# Altium integrated library Microchip SST Flash.IntLib: 282 symbols (part 11 of 37)
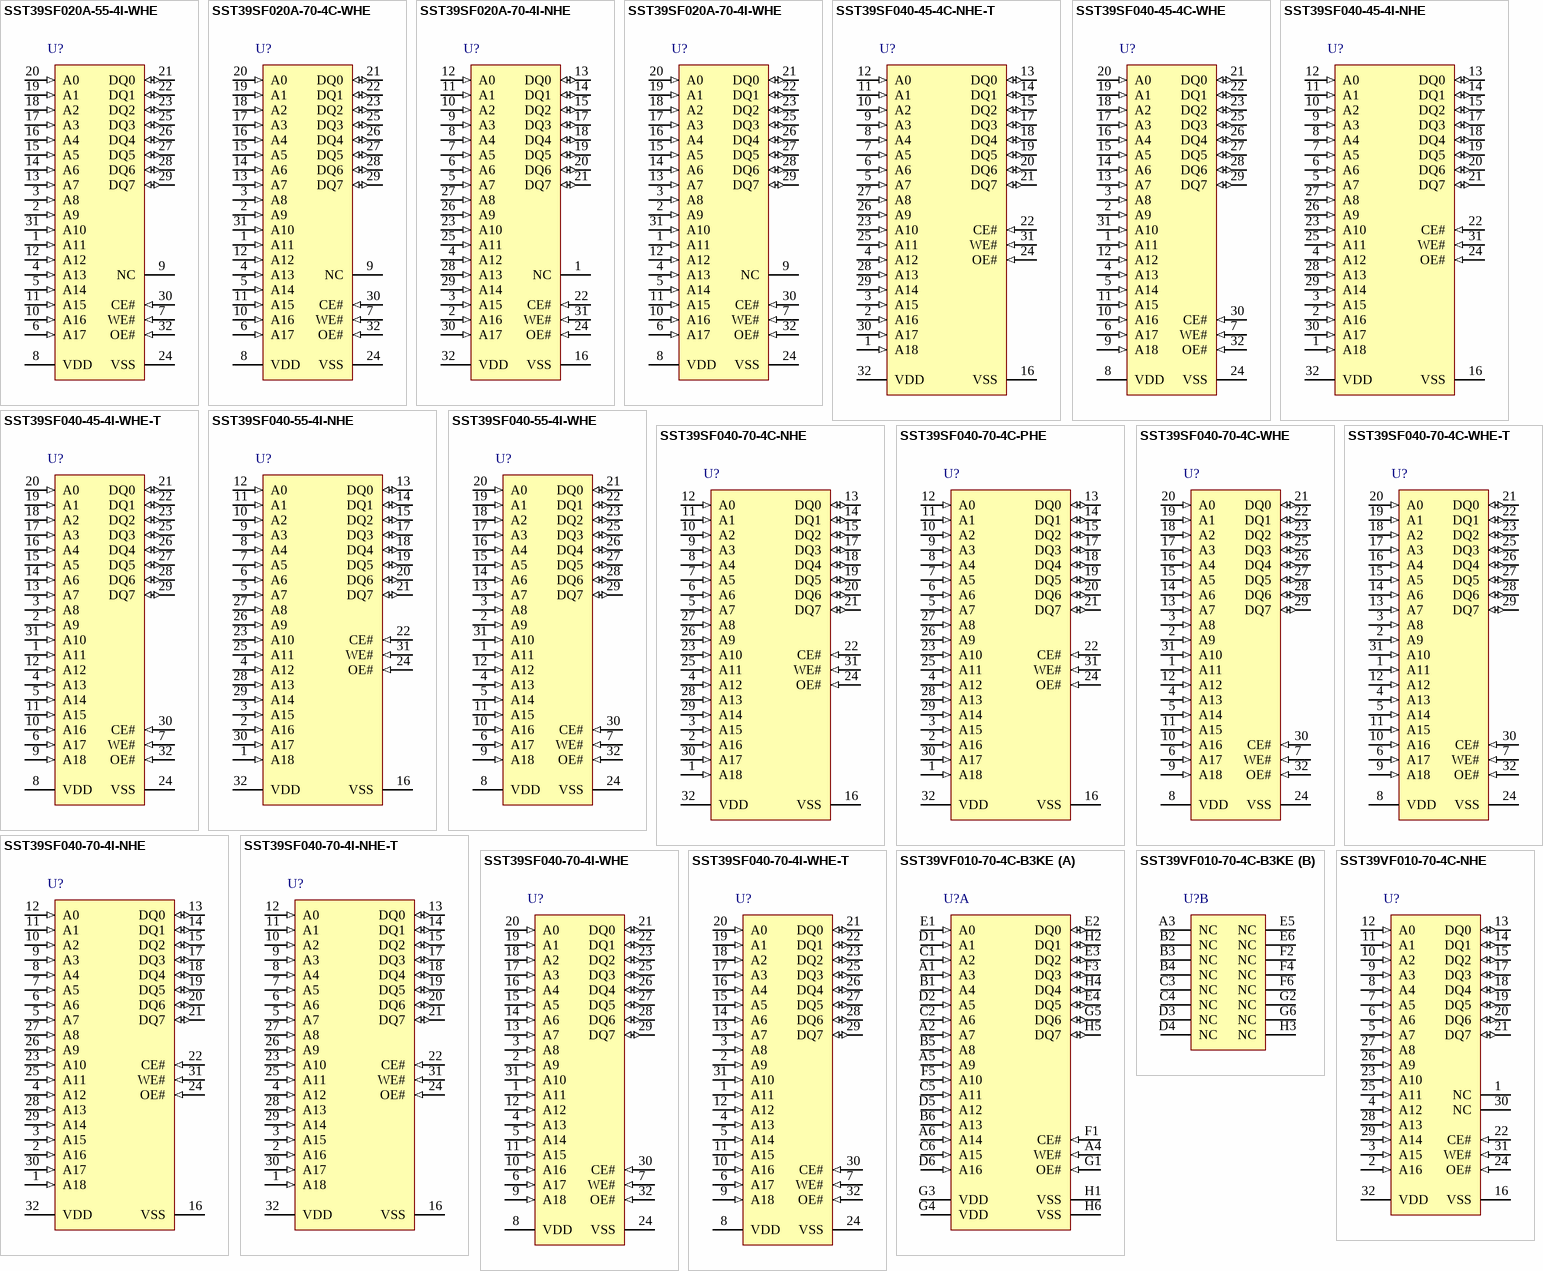
[diagram p24: symbols SST39SF020A-55-4I-WHE to SST39VF010-70-4C-NHE]

## SST39SF040-45-4C-WHE
designator U?
4 Mbit Multi-Purpose Flash, 4.5 to 5.5 V, 1 kHz, 0 to 70 degC, 32-pin TSOP (WH32), Tray; Manufacturer: Microchip; PartNumber: SST39SF040-45-4C-WHE; DatasheetVersion: Rev. A; PackageVersion: Rev. A; PackageReference: TSOP-WH32; PackageDescription: 32-Lead Thin Small Outline Package, 12.4 x 8 mm Body, 0.5 mm Pitch; Supplier 1: Digi-Key; Supplier Part Number 1: SST39SF040-45-4C-WHE-ND; Supplier 2: Mouser; Supplier Part Number 2: 804-39SF0405CWHE; Mounting Technology: Surface Mount; Code_JEDEC: MO-142; ComponentLink1Description: Manufacturer URL; ComponentLink1URL: http://www.microchip.com; ComponentLink2Description: Datasheet; ComponentLink2URL: http://ww1.microchip.com/downloads/en/DeviceDoc/25022A.pdf; ComponentLink3Description: Package Specification; ComponentLink3URL: http://ww1.microchip.com/downloads/en/DeviceDoc/25022A.pdf; ComponentLink4Description: Product URL; ComponentLink4URL: http://www.microchip.com/SST39SF040
footprint MCHP-TSOP-WH32_N (SOP, 32-Leads, Body 12.4x8mm, Pitch 0.5mm, IPC Medium Density)
footprint MCHP-TSOP-WH32_L (SOP, 32-Leads, Body 12.4x8mm, Pitch 0.5mm, IPC High Density)
footprint MCHP-TSOP-WH32_M (SOP, 32-Leads, Body 12.4x8mm, Pitch 0.5mm, IPC Low Density)
pins: 1 A11 (in) "To provide memory addresses. During Sector-Erase AMS-A12 address lines will select the sector.", 2 A9 (in) "To provide memory addresses. During Sector-Erase AMS-A12 address lines will select the sector.", 3 A8 (in) "To provide memory addresses. During Sector-Erase AMS-A12 address lines will select the sector.", 4 A13 (in) "To provide memory addresses. During Sector-Erase AMS-A12 address lines will select the sector.", 5 A14 (in) "To provide memory addresses. During Sector-Erase AMS-A12 address lines will select the sector.", 6 A17 (in) "To provide memory addresses. During Sector-Erase AMS-A12 address lines will select the sector.", 7 WE# (in) "To control the Write operations.", 8 VDD (power) "To provide positive power supply", 9 A18 (in) "To provide memory addresses. During Sector-Erase AMS-A12 address lines will select the sector.", 10 A16 (in) "To provide memory addresses. During Sector-Erase AMS-A12 address lines will select the sector.", 11 A15 (in) "To provide memory addresses. During Sector-Erase AMS-A12 address lines will select the sector.", 12 A12 (in) "To provide memory addresses. During Sector-Erase AMS-A12 address lines will select the sector.", 13 A7 (in) "To provide memory addresses. During Sector-Erase AMS-A12 address lines will select the sector.", 14 A6 (in) "To provide memory addresses. During Sector-Erase AMS-A12 address lines will select the sector.", 15 A5 (in) "To provide memory addresses. During Sector-Erase AMS-A12 address lines will select the sector.", 16 A4 (in) "To provide memory addresses. During Sector-Erase AMS-A12 address lines will select the sector.", 17 A3 (in) "To provide memory addresses. During Sector-Erase AMS-A12 address lines will select the sector.", 18 A2 (in) "To provide memory addresses. During Sector-Erase AMS-A12 address lines will select the sector.", 19 A1 (in) "To provide memory addresses. During Sector-Erase AMS-A12 address lines will select the sector.", 20 A0 (in) "To provide memory addresses. During Sector-Erase AMS-A12 address lines will select the sector.", 21 DQ0 (io) "To output data during Read cycles and receive input data during Write cycles. Data is internally latched during a Write cycle. The outputs are in tri-state when OE# or CE# is high.", 22 DQ1 (io) "To output data during Read cycles and receive input data during Write cycles. Data is internally latched during a Write cycle. The outputs are in tri-state when OE# or CE# is high.", 23 DQ2 (io) "To output data during Read cycles and receive input data during Write cycles. Data is internally latched during a Write cycle. The outputs are in tri-state when OE# or CE# is high.", 24 VSS (power) "Ground", 25 DQ3 (io) "To output data during Read cycles and receive input data during Write cycles. Data is internally latched during a Write cycle. The outputs are in tri-state when OE# or CE# is high.", 26 DQ4 (io) "To output data during Read cycles and receive input data during Write cycles. Data is internally latched during a Write cycle. The outputs are in tri-state when OE# or CE# is high.", 27 DQ5 (io) "To output data during Read cycles and receive input data during Write cycles. Data is internally latched during a Write cycle. The outputs are in tri-state when OE# or CE# is high.", 28 DQ6 (io) "To output data during Read cycles and receive input data during Write cycles. Data is internally latched during a Write cycle. The outputs are in tri-state when OE# or CE# is high.", 29 DQ7 (io) "To output data during Read cycles and receive input data during Write cycles. Data is internally latched during a Write cycle. The outputs are in tri-state when OE# or CE# is high.", 30 CE# (in) "To activate the device when CE# is low.", 31 A10 (in) "To provide memory addresses. During Sector-Erase AMS-A12 address lines will select the sector.", 32 OE# (in) "To gate the data output buffers."

## SST39SF040-45-4I-NHE
designator U?
4 Mbit Multi-Purpose Flash, 4.5 to 5.5 V, 1 kHz, -40 to 85 degC, 32-pin PLCC (NH32), Tube; Manufacturer: Microchip; PartNumber: SST39SF040-45-4I-NHE; DatasheetVersion: Rev. A; PackageVersion: Rev. A; PackageReference: PLCC-NH32; PackageDescription: 32-lead Plastic Lead Chip Carrier, 11.43 x 13.97 mm Body, 1.27 mm Pitch; Supplier 1: Digi-Key; Supplier Part Number 1: SST39SF040-45-4I-NHE-ND; Supplier 2: Mouser; Supplier Part Number 2: 804-39SF0405INHE; Mounting Technology: Surface Mount; Code_JEDEC: MS-016; ComponentLink1Description: Manufacturer URL; ComponentLink1URL: http://www.microchip.com; ComponentLink2Description: Datasheet; ComponentLink2URL: http://ww1.microchip.com/downloads/en/DeviceDoc/25022A.pdf; ComponentLink3Description: Package Specification; ComponentLink3URL: http://ww1.microchip.com/downloads/en/DeviceDoc/25022A.pdf; ComponentLink4Description: Product URL; ComponentLink4URL: http://www.microchip.com/SST39SF040
footprint MCHP-PLCC-NH32_N (PLCC, 32-Leads, Body 13.97x11.43mm, Pitch 1.27mm, IPC Medium Density)
footprint MCHP-PLCC-NH32_L (PLCC, 32-Leads, Body 13.97x11.43mm, Pitch 1.27mm, IPC High Density)
footprint MCHP-PLCC-NH32_M (PLCC, 32-Leads, Body 13.97x11.43mm, Pitch 1.27mm, IPC Low Density)
pins: 1 A18 (in) "To provide memory addresses. During Sector-Erase AMS-A12 address lines will select the sector.", 2 A16 (in) "To provide memory addresses. During Sector-Erase AMS-A12 address lines will select the sector.", 3 A15 (in) "To provide memory addresses. During Sector-Erase AMS-A12 address lines will select the sector.", 4 A12 (in) "To provide memory addresses. During Sector-Erase AMS-A12 address lines will select the sector.", 5 A7 (in) "To provide memory addresses. During Sector-Erase AMS-A12 address lines will select the sector.", 6 A6 (in) "To provide memory addresses. During Sector-Erase AMS-A12 address lines will select the sector.", 7 A5 (in) "To provide memory addresses. During Sector-Erase AMS-A12 address lines will select the sector.", 8 A4 (in) "To provide memory addresses. During Sector-Erase AMS-A12 address lines will select the sector.", 9 A3 (in) "To provide memory addresses. During Sector-Erase AMS-A12 address lines will select the sector.", 10 A2 (in) "To provide memory addresses. During Sector-Erase AMS-A12 address lines will select the sector.", 11 A1 (in) "To provide memory addresses. During Sector-Erase AMS-A12 address lines will select the sector.", 12 A0 (in) "To provide memory addresses. During Sector-Erase AMS-A12 address lines will select the sector.", 13 DQ0 (io) "To output data during Read cycles and receive input data during Write cycles. Data is internally latched during a Write cycle. The outputs are in tri-state when OE# or CE# is high.", 14 DQ1 (io) "To output data during Read cycles and receive input data during Write cycles. Data is internally latched during a Write cycle. The outputs are in tri-state when OE# or CE# is high.", 15 DQ2 (io) "To output data during Read cycles and receive input data during Write cycles. Data is internally latched during a Write cycle. The outputs are in tri-state when OE# or CE# is high.", 16 VSS (power) "Ground", 17 DQ3 (io) "To output data during Read cycles and receive input data during Write cycles. Data is internally latched during a Write cycle. The outputs are in tri-state when OE# or CE# is high.", 18 DQ4 (io) "To output data during Read cycles and receive input data during Write cycles. Data is internally latched during a Write cycle. The outputs are in tri-state when OE# or CE# is high.", 19 DQ5 (io) "To output data during Read cycles and receive input data during Write cycles. Data is internally latched during a Write cycle. The outputs are in tri-state when OE# or CE# is high.", 20 DQ6 (io) "To output data during Read cycles and receive input data during Write cycles. Data is internally latched during a Write cycle. The outputs are in tri-state when OE# or CE# is high.", 21 DQ7 (io) "To output data during Read cycles and receive input data during Write cycles. Data is internally latched during a Write cycle. The outputs are in tri-state when OE# or CE# is high.", 22 CE# (in) "To activate the device when CE# is low.", 23 A10 (in) "To provide memory addresses. During Sector-Erase AMS-A12 address lines will select the sector.", 24 OE# (in) "To gate the data output buffers.", 25 A11 (in) "To provide memory addresses. During Sector-Erase AMS-A12 address lines will select the sector.", 26 A9 (in) "To provide memory addresses. During Sector-Erase AMS-A12 address lines will select the sector.", 27 A8 (in) "To provide memory addresses. During Sector-Erase AMS-A12 address lines will select the sector.", 28 A13 (in) "To provide memory addresses. During Sector-Erase AMS-A12 address lines will select the sector.", 29 A14 (in) "To provide memory addresses. During Sector-Erase AMS-A12 address lines will select the sector.", 30 A17 (in) "To provide memory addresses. During Sector-Erase AMS-A12 address lines will select the sector.", 31 WE# (in) "To control the Write operations.", 32 VDD (power) "To provide 5.0V supply (4.5-5.5V)"

## SST39SF040-45-4I-WHE-T
designator U?
4 Mbit Multi-Purpose Flash, 4.5 to 5.5 V, 1 kHz, -40 to 85 degC, 32-pin TSOP (WH32), Tape and Reel; Manufacturer: Microchip; PartNumber: SST39SF040-45-4I-WHE-T; DatasheetVersion: Rev. A; PackageVersion: Rev. A; PackageReference: TSOP-WH32; PackageDescription: 32-Lead Thin Small Outline Package, 12.4 x 8 mm Body, 0.5 mm Pitch; Supplier 1: Digi-Key; Supplier Part Number 1: SST39SF040-45-4I-WHE-T-ND; Supplier 2: Mouser; Supplier Part Number 2: 579-39SF0404IWHET; Mounting Technology: Surface Mount; Code_JEDEC: MO-142; ComponentLink1Description: Manufacturer URL; ComponentLink1URL: http://www.microchip.com; ComponentLink2Description: Datasheet; ComponentLink2URL: http://ww1.microchip.com/downloads/en/DeviceDoc/25022A.pdf; ComponentLink3Description: Package Specification; ComponentLink3URL: http://ww1.microchip.com/downloads/en/DeviceDoc/25022A.pdf; ComponentLink4Description: Product URL; ComponentLink4URL: http://www.microchip.com/SST39SF040
footprint MCHP-TSOP-WH32_N (SOP, 32-Leads, Body 12.4x8mm, Pitch 0.5mm, IPC Medium Density)
footprint MCHP-TSOP-WH32_L (SOP, 32-Leads, Body 12.4x8mm, Pitch 0.5mm, IPC High Density)
footprint MCHP-TSOP-WH32_M (SOP, 32-Leads, Body 12.4x8mm, Pitch 0.5mm, IPC Low Density)
pins: 1 A11 (in) "To provide memory addresses. During Sector-Erase AMS-A12 address lines will select the sector.", 2 A9 (in) "To provide memory addresses. During Sector-Erase AMS-A12 address lines will select the sector.", 3 A8 (in) "To provide memory addresses. During Sector-Erase AMS-A12 address lines will select the sector.", 4 A13 (in) "To provide memory addresses. During Sector-Erase AMS-A12 address lines will select the sector.", 5 A14 (in) "To provide memory addresses. During Sector-Erase AMS-A12 address lines will select the sector.", 6 A17 (in) "To provide memory addresses. During Sector-Erase AMS-A12 address lines will select the sector.", 7 WE# (in) "To control the Write operations.", 8 VDD (power) "To provide positive power supply", 9 A18 (in) "To provide memory addresses. During Sector-Erase AMS-A12 address lines will select the sector.", 10 A16 (in) "To provide memory addresses. During Sector-Erase AMS-A12 address lines will select the sector.", 11 A15 (in) "To provide memory addresses. During Sector-Erase AMS-A12 address lines will select the sector.", 12 A12 (in) "To provide memory addresses. During Sector-Erase AMS-A12 address lines will select the sector.", 13 A7 (in) "To provide memory addresses. During Sector-Erase AMS-A12 address lines will select the sector.", 14 A6 (in) "To provide memory addresses. During Sector-Erase AMS-A12 address lines will select the sector.", 15 A5 (in) "To provide memory addresses. During Sector-Erase AMS-A12 address lines will select the sector.", 16 A4 (in) "To provide memory addresses. During Sector-Erase AMS-A12 address lines will select the sector.", 17 A3 (in) "To provide memory addresses. During Sector-Erase AMS-A12 address lines will select the sector.", 18 A2 (in) "To provide memory addresses. During Sector-Erase AMS-A12 address lines will select the sector.", 19 A1 (in) "To provide memory addresses. During Sector-Erase AMS-A12 address lines will select the sector.", 20 A0 (in) "To provide memory addresses. During Sector-Erase AMS-A12 address lines will select the sector.", 21 DQ0 (io) "To output data during Read cycles and receive input data during Write cycles. Data is internally latched during a Write cycle. The outputs are in tri-state when OE# or CE# is high.", 22 DQ1 (io) "To output data during Read cycles and receive input data during Write cycles. Data is internally latched during a Write cycle. The outputs are in tri-state when OE# or CE# is high.", 23 DQ2 (io) "To output data during Read cycles and receive input data during Write cycles. Data is internally latched during a Write cycle. The outputs are in tri-state when OE# or CE# is high.", 24 VSS (power) "Ground", 25 DQ3 (io) "To output data during Read cycles and receive input data during Write cycles. Data is internally latched during a Write cycle. The outputs are in tri-state when OE# or CE# is high.", 26 DQ4 (io) "To output data during Read cycles and receive input data during Write cycles. Data is internally latched during a Write cycle. The outputs are in tri-state when OE# or CE# is high.", 27 DQ5 (io) "To output data during Read cycles and receive input data during Write cycles. Data is internally latched during a Write cycle. The outputs are in tri-state when OE# or CE# is high.", 28 DQ6 (io) "To output data during Read cycles and receive input data during Write cycles. Data is internally latched during a Write cycle. The outputs are in tri-state when OE# or CE# is high.", 29 DQ7 (io) "To output data during Read cycles and receive input data during Write cycles. Data is internally latched during a Write cycle. The outputs are in tri-state when OE# or CE# is high.", 30 CE# (in) "To activate the device when CE# is low.", 31 A10 (in) "To provide memory addresses. During Sector-Erase AMS-A12 address lines will select the sector.", 32 OE# (in) "To gate the data output buffers."

## SST39SF040-55-4I-NHE
designator U?
4 Mbit Multi-Purpose Flash, 4.5 to 5.5 V, 1 kHz, -40 to 85 degC, 32-pin PLCC (NH32), Tube; Manufacturer: Microchip; PartNumber: SST39SF040-55-4I-NHE; DatasheetVersion: Rev. A; PackageVersion: Rev. A; PackageReference: PLCC-NH32; PackageDescription: 32-lead Plastic Lead Chip Carrier, 11.43 x 13.97 mm Body, 1.27 mm Pitch; Supplier 1: Digi-Key; Supplier Part Number 1: SST39SF040-55-4I-NHE-ND; Supplier 2: Newark; Supplier Part Number 2: 92R4725; Supplier 3: Mouser; Supplier Part Number 3: 579-39SF0405INHE; Mounting Technology: Surface Mount; Code_JEDEC: MS-016; ComponentLink1Description: Manufacturer URL; ComponentLink1URL: http://www.microchip.com; ComponentLink2Description: Datasheet; ComponentLink2URL: http://ww1.microchip.com/downloads/en/DeviceDoc/25022A.pdf; ComponentLink3Description: Package Specification; ComponentLink3URL: http://ww1.microchip.com/downloads/en/DeviceDoc/25022A.pdf; ComponentLink4Description: Product URL; ComponentLink4URL: http://www.microchip.com/SST39SF040
footprint MCHP-PLCC-NH32_N (PLCC, 32-Leads, Body 13.97x11.43mm, Pitch 1.27mm, IPC Medium Density)
footprint MCHP-PLCC-NH32_L (PLCC, 32-Leads, Body 13.97x11.43mm, Pitch 1.27mm, IPC High Density)
footprint MCHP-PLCC-NH32_M (PLCC, 32-Leads, Body 13.97x11.43mm, Pitch 1.27mm, IPC Low Density)
pins: 1 A18 (in) "To provide memory addresses. During Sector-Erase AMS-A12 address lines will select the sector.", 2 A16 (in) "To provide memory addresses. During Sector-Erase AMS-A12 address lines will select the sector.", 3 A15 (in) "To provide memory addresses. During Sector-Erase AMS-A12 address lines will select the sector.", 4 A12 (in) "To provide memory addresses. During Sector-Erase AMS-A12 address lines will select the sector.", 5 A7 (in) "To provide memory addresses. During Sector-Erase AMS-A12 address lines will select the sector.", 6 A6 (in) "To provide memory addresses. During Sector-Erase AMS-A12 address lines will select the sector.", 7 A5 (in) "To provide memory addresses. During Sector-Erase AMS-A12 address lines will select the sector.", 8 A4 (in) "To provide memory addresses. During Sector-Erase AMS-A12 address lines will select the sector.", 9 A3 (in) "To provide memory addresses. During Sector-Erase AMS-A12 address lines will select the sector.", 10 A2 (in) "To provide memory addresses. During Sector-Erase AMS-A12 address lines will select the sector.", 11 A1 (in) "To provide memory addresses. During Sector-Erase AMS-A12 address lines will select the sector.", 12 A0 (in) "To provide memory addresses. During Sector-Erase AMS-A12 address lines will select the sector.", 13 DQ0 (io) "To output data during Read cycles and receive input data during Write cycles. Data is internally latched during a Write cycle. The outputs are in tri-state when OE# or CE# is high.", 14 DQ1 (io) "To output data during Read cycles and receive input data during Write cycles. Data is internally latched during a Write cycle. The outputs are in tri-state when OE# or CE# is high.", 15 DQ2 (io) "To output data during Read cycles and receive input data during Write cycles. Data is internally latched during a Write cycle. The outputs are in tri-state when OE# or CE# is high.", 16 VSS (power) "Ground", 17 DQ3 (io) "To output data during Read cycles and receive input data during Write cycles. Data is internally latched during a Write cycle. The outputs are in tri-state when OE# or CE# is high.", 18 DQ4 (io) "To output data during Read cycles and receive input data during Write cycles. Data is internally latched during a Write cycle. The outputs are in tri-state when OE# or CE# is high.", 19 DQ5 (io) "To output data during Read cycles and receive input data during Write cycles. Data is internally latched during a Write cycle. The outputs are in tri-state when OE# or CE# is high.", 20 DQ6 (io) "To output data during Read cycles and receive input data during Write cycles. Data is internally latched during a Write cycle. The outputs are in tri-state when OE# or CE# is high.", 21 DQ7 (io) "To output data during Read cycles and receive input data during Write cycles. Data is internally latched during a Write cycle. The outputs are in tri-state when OE# or CE# is high.", 22 CE# (in) "To activate the device when CE# is low.", 23 A10 (in) "To provide memory addresses. During Sector-Erase AMS-A12 address lines will select the sector.", 24 OE# (in) "To gate the data output buffers.", 25 A11 (in) "To provide memory addresses. During Sector-Erase AMS-A12 address lines will select the sector.", 26 A9 (in) "To provide memory addresses. During Sector-Erase AMS-A12 address lines will select the sector.", 27 A8 (in) "To provide memory addresses. During Sector-Erase AMS-A12 address lines will select the sector.", 28 A13 (in) "To provide memory addresses. During Sector-Erase AMS-A12 address lines will select the sector.", 29 A14 (in) "To provide memory addresses. During Sector-Erase AMS-A12 address lines will select the sector.", 30 A17 (in) "To provide memory addresses. During Sector-Erase AMS-A12 address lines will select the sector.", 31 WE# (in) "To control the Write operations.", 32 VDD (power) "To provide 5.0V supply (4.5-5.5V)"

## SST39SF040-55-4I-WHE
designator U?
4 Mbit Multi-Purpose Flash, 4.5 to 5.5 V, 1 kHz, -40 to 85 degC, 32-pin TSOP (WH32), Tray; Manufacturer: Microchip; PartNumber: SST39SF040-55-4I-WHE; DatasheetVersion: Rev. A; PackageVersion: Rev. A; PackageReference: TSOP-WH32; PackageDescription: 32-Lead Thin Small Outline Package, 12.4 x 8 mm Body, 0.5 mm Pitch; Supplier 1: Digi-Key; Supplier Part Number 1: SST39SF040-55-4I-WHE-ND; Supplier 2: Newark; Supplier Part Number 2: 92R4726; Supplier 3: Mouser; Supplier Part Number 3: 579-39SF0405IWHE; Mounting Technology: Surface Mount; Code_JEDEC: MO-142; ComponentLink1Description: Manufacturer URL; ComponentLink1URL: http://www.microchip.com; ComponentLink2Description: Datasheet; ComponentLink2URL: http://ww1.microchip.com/downloads/en/DeviceDoc/25022A.pdf; ComponentLink3Description: Package Specification; ComponentLink3URL: http://ww1.microchip.com/downloads/en/DeviceDoc/25022A.pdf; ComponentLink4Description: Product URL; ComponentLink4URL: http://www.microchip.com/SST39SF040
footprint MCHP-TSOP-WH32_N (SOP, 32-Leads, Body 12.4x8mm, Pitch 0.5mm, IPC Medium Density)
footprint MCHP-TSOP-WH32_L (SOP, 32-Leads, Body 12.4x8mm, Pitch 0.5mm, IPC High Density)
footprint MCHP-TSOP-WH32_M (SOP, 32-Leads, Body 12.4x8mm, Pitch 0.5mm, IPC Low Density)
pins: 1 A11 (in) "To provide memory addresses. During Sector-Erase AMS-A12 address lines will select the sector.", 2 A9 (in) "To provide memory addresses. During Sector-Erase AMS-A12 address lines will select the sector.", 3 A8 (in) "To provide memory addresses. During Sector-Erase AMS-A12 address lines will select the sector.", 4 A13 (in) "To provide memory addresses. During Sector-Erase AMS-A12 address lines will select the sector.", 5 A14 (in) "To provide memory addresses. During Sector-Erase AMS-A12 address lines will select the sector.", 6 A17 (in) "To provide memory addresses. During Sector-Erase AMS-A12 address lines will select the sector.", 7 WE# (in) "To control the Write operations.", 8 VDD (power) "To provide positive power supply", 9 A18 (in) "To provide memory addresses. During Sector-Erase AMS-A12 address lines will select the sector.", 10 A16 (in) "To provide memory addresses. During Sector-Erase AMS-A12 address lines will select the sector.", 11 A15 (in) "To provide memory addresses. During Sector-Erase AMS-A12 address lines will select the sector.", 12 A12 (in) "To provide memory addresses. During Sector-Erase AMS-A12 address lines will select the sector.", 13 A7 (in) "To provide memory addresses. During Sector-Erase AMS-A12 address lines will select the sector.", 14 A6 (in) "To provide memory addresses. During Sector-Erase AMS-A12 address lines will select the sector.", 15 A5 (in) "To provide memory addresses. During Sector-Erase AMS-A12 address lines will select the sector.", 16 A4 (in) "To provide memory addresses. During Sector-Erase AMS-A12 address lines will select the sector.", 17 A3 (in) "To provide memory addresses. During Sector-Erase AMS-A12 address lines will select the sector.", 18 A2 (in) "To provide memory addresses. During Sector-Erase AMS-A12 address lines will select the sector.", 19 A1 (in) "To provide memory addresses. During Sector-Erase AMS-A12 address lines will select the sector.", 20 A0 (in) "To provide memory addresses. During Sector-Erase AMS-A12 address lines will select the sector.", 21 DQ0 (io) "To output data during Read cycles and receive input data during Write cycles. Data is internally latched during a Write cycle. The outputs are in tri-state when OE# or CE# is high.", 22 DQ1 (io) "To output data during Read cycles and receive input data during Write cycles. Data is internally latched during a Write cycle. The outputs are in tri-state when OE# or CE# is high.", 23 DQ2 (io) "To output data during Read cycles and receive input data during Write cycles. Data is internally latched during a Write cycle. The outputs are in tri-state when OE# or CE# is high.", 24 VSS (power) "Ground", 25 DQ3 (io) "To output data during Read cycles and receive input data during Write cycles. Data is internally latched during a Write cycle. The outputs are in tri-state when OE# or CE# is high.", 26 DQ4 (io) "To output data during Read cycles and receive input data during Write cycles. Data is internally latched during a Write cycle. The outputs are in tri-state when OE# or CE# is high.", 27 DQ5 (io) "To output data during Read cycles and receive input data during Write cycles. Data is internally latched during a Write cycle. The outputs are in tri-state when OE# or CE# is high.", 28 DQ6 (io) "To output data during Read cycles and receive input data during Write cycles. Data is internally latched during a Write cycle. The outputs are in tri-state when OE# or CE# is high.", 29 DQ7 (io) "To output data during Read cycles and receive input data during Write cycles. Data is internally latched during a Write cycle. The outputs are in tri-state when OE# or CE# is high.", 30 CE# (in) "To activate the device when CE# is low.", 31 A10 (in) "To provide memory addresses. During Sector-Erase AMS-A12 address lines will select the sector.", 32 OE# (in) "To gate the data output buffers."

## SST39SF040-70-4C-NHE
designator U?
4 Mbit Multi-Purpose Flash, 4.5 to 5.5 V, 1 kHz, 0 to 70 degC, 32-pin PLCC (NH32), Tube; Manufacturer: Microchip; PartNumber: SST39SF040-70-4C-NHE; DatasheetVersion: Rev. A; PackageVersion: Rev. A; PackageReference: PLCC-NH32; PackageDescription: 32-lead Plastic Lead Chip Carrier, 11.43 x 13.97 mm Body, 1.27 mm Pitch; Supplier 1: Digi-Key; Supplier Part Number 1: SST39SF040-70-4C-NHE-ND; Supplier 2: Farnell; Supplier Part Number 2: 1871946; Supplier 3: Newark; Supplier Part Number 3: 92R4727; Supplier 4: Mouser; Supplier Part Number 4: 804-39SF0407CNHE; Mounting Technology: Surface Mount; Code_JEDEC: MS-016; ComponentLink1Description: Manufacturer URL; ComponentLink1URL: http://www.microchip.com; ComponentLink2Description: Datasheet; ComponentLink2URL: http://ww1.microchip.com/downloads/en/DeviceDoc/25022A.pdf; ComponentLink3Description: Package Specification; ComponentLink3URL: http://ww1.microchip.com/downloads/en/DeviceDoc/25022A.pdf; ComponentLink4Description: Product URL; ComponentLink4URL: http://www.microchip.com/SST39SF040
footprint MCHP-PLCC-NH32_N (PLCC, 32-Leads, Body 13.97x11.43mm, Pitch 1.27mm, IPC Medium Density)
footprint MCHP-PLCC-NH32_L (PLCC, 32-Leads, Body 13.97x11.43mm, Pitch 1.27mm, IPC High Density)
footprint MCHP-PLCC-NH32_M (PLCC, 32-Leads, Body 13.97x11.43mm, Pitch 1.27mm, IPC Low Density)
pins: 1 A18 (in) "To provide memory addresses. During Sector-Erase AMS-A12 address lines will select the sector.", 2 A16 (in) "To provide memory addresses. During Sector-Erase AMS-A12 address lines will select the sector.", 3 A15 (in) "To provide memory addresses. During Sector-Erase AMS-A12 address lines will select the sector.", 4 A12 (in) "To provide memory addresses. During Sector-Erase AMS-A12 address lines will select the sector.", 5 A7 (in) "To provide memory addresses. During Sector-Erase AMS-A12 address lines will select the sector.", 6 A6 (in) "To provide memory addresses. During Sector-Erase AMS-A12 address lines will select the sector.", 7 A5 (in) "To provide memory addresses. During Sector-Erase AMS-A12 address lines will select the sector.", 8 A4 (in) "To provide memory addresses. During Sector-Erase AMS-A12 address lines will select the sector.", 9 A3 (in) "To provide memory addresses. During Sector-Erase AMS-A12 address lines will select the sector.", 10 A2 (in) "To provide memory addresses. During Sector-Erase AMS-A12 address lines will select the sector.", 11 A1 (in) "To provide memory addresses. During Sector-Erase AMS-A12 address lines will select the sector.", 12 A0 (in) "To provide memory addresses. During Sector-Erase AMS-A12 address lines will select the sector.", 13 DQ0 (io) "To output data during Read cycles and receive input data during Write cycles. Data is internally latched during a Write cycle. The outputs are in tri-state when OE# or CE# is high.", 14 DQ1 (io) "To output data during Read cycles and receive input data during Write cycles. Data is internally latched during a Write cycle. The outputs are in tri-state when OE# or CE# is high.", 15 DQ2 (io) "To output data during Read cycles and receive input data during Write cycles. Data is internally latched during a Write cycle. The outputs are in tri-state when OE# or CE# is high.", 16 VSS (power) "Ground", 17 DQ3 (io) "To output data during Read cycles and receive input data during Write cycles. Data is internally latched during a Write cycle. The outputs are in tri-state when OE# or CE# is high.", 18 DQ4 (io) "To output data during Read cycles and receive input data during Write cycles. Data is internally latched during a Write cycle. The outputs are in tri-state when OE# or CE# is high.", 19 DQ5 (io) "To output data during Read cycles and receive input data during Write cycles. Data is internally latched during a Write cycle. The outputs are in tri-state when OE# or CE# is high.", 20 DQ6 (io) "To output data during Read cycles and receive input data during Write cycles. Data is internally latched during a Write cycle. The outputs are in tri-state when OE# or CE# is high.", 21 DQ7 (io) "To output data during Read cycles and receive input data during Write cycles. Data is internally latched during a Write cycle. The outputs are in tri-state when OE# or CE# is high.", 22 CE# (in) "To activate the device when CE# is low.", 23 A10 (in) "To provide memory addresses. During Sector-Erase AMS-A12 address lines will select the sector.", 24 OE# (in) "To gate the data output buffers.", 25 A11 (in) "To provide memory addresses. During Sector-Erase AMS-A12 address lines will select the sector.", 26 A9 (in) "To provide memory addresses. During Sector-Erase AMS-A12 address lines will select the sector.", 27 A8 (in) "To provide memory addresses. During Sector-Erase AMS-A12 address lines will select the sector.", 28 A13 (in) "To provide memory addresses. During Sector-Erase AMS-A12 address lines will select the sector.", 29 A14 (in) "To provide memory addresses. During Sector-Erase AMS-A12 address lines will select the sector.", 30 A17 (in) "To provide memory addresses. During Sector-Erase AMS-A12 address lines will select the sector.", 31 WE# (in) "To control the Write operations.", 32 VDD (power) "To provide 5.0V supply (4.5-5.5V)"

## SST39SF040-70-4C-PHE
designator U?
4 Mbit Multi-Purpose Flash, 4.5 to 5.5 V, 1 kHz, 0 to 70 degC, 32-pin PDIP (PH32), Tube; Manufacturer: Microchip; PartNumber: SST39SF040-70-4C-PHE; DatasheetVersion: Rev. A; PackageVersion: Rev. A; PackageReference: PDIP-PH32; PackageDescription: 32-Pin Plastic Dual In-line Pins, Row Spacing 15.24 mm, 41.91 x 13.72 mm Body, 2.54 mm Pitch; Supplier 1: Digi-Key; Supplier Part Number 1: SST39SF040-70-4C-PHE-ND; Supplier 2: Newark; Supplier Part Number 2: 92R4729; Supplier 3: Mouser; Supplier Part Number 3: 804-39SF0407CPHE; Mounting Technology: Through Hole; Code_JEDEC: MO-015; ComponentLink1Description: Manufacturer URL; ComponentLink1URL: http://www.microchip.com; ComponentLink2Description: Datasheet; ComponentLink2URL: http://ww1.microchip.com/downloads/en/DeviceDoc/25022A.pdf; ComponentLink3Description: Package Specification; ComponentLink3URL: http://ww1.microchip.com/downloads/en/DeviceDoc/25022A.pdf; ComponentLink4Description: Product URL; ComponentLink4URL: http://www.microchip.com/SST39SF040
footprint MCHP-PDIP-PH32 (DIP, 32-Leads, Body 41.91x13.72mm, Pitch 2.54mm)
pins: 1 A18 (in) "To provide memory addresses. During Sector-Erase AMS-A12 address lines will select the sector.", 2 A16 (in) "To provide memory addresses. During Sector-Erase AMS-A12 address lines will select the sector.", 3 A15 (in) "To provide memory addresses. During Sector-Erase AMS-A12 address lines will select the sector.", 4 A12 (in) "To provide memory addresses. During Sector-Erase AMS-A12 address lines will select the sector.", 5 A7 (in) "To provide memory addresses. During Sector-Erase AMS-A12 address lines will select the sector.", 6 A6 (in) "To provide memory addresses. During Sector-Erase AMS-A12 address lines will select the sector.", 7 A5 (in) "To provide memory addresses. During Sector-Erase AMS-A12 address lines will select the sector.", 8 A4 (in) "To provide memory addresses. During Sector-Erase AMS-A12 address lines will select the sector.", 9 A3 (in) "To provide memory addresses. During Sector-Erase AMS-A12 address lines will select the sector.", 10 A2 (in) "To provide memory addresses. During Sector-Erase AMS-A12 address lines will select the sector.", 11 A1 (in) "To provide memory addresses. During Sector-Erase AMS-A12 address lines will select the sector.", 12 A0 (in) "To provide memory addresses. During Sector-Erase AMS-A12 address lines will select the sector.", 13 DQ0 (io) "To output data during Read cycles and receive input data during Write cycles. Data is internally latched during a Write cycle. The outputs are in tri-state when OE# or CE# is high.", 14 DQ1 (io) "To output data during Read cycles and receive input data during Write cycles. Data is internally latched during a Write cycle. The outputs are in tri-state when OE# or CE# is high.", 15 DQ2 (io) "To output data during Read cycles and receive input data during Write cycles. Data is internally latched during a Write cycle. The outputs are in tri-state when OE# or CE# is high.", 16 VSS (power) "Ground", 17 DQ3 (io) "To output data during Read cycles and receive input data during Write cycles. Data is internally latched during a Write cycle. The outputs are in tri-state when OE# or CE# is high.", 18 DQ4 (io) "To output data during Read cycles and receive input data during Write cycles. Data is internally latched during a Write cycle. The outputs are in tri-state when OE# or CE# is high.", 19 DQ5 (io) "To output data during Read cycles and receive input data during Write cycles. Data is internally latched during a Write cycle. The outputs are in tri-state when OE# or CE# is high.", 20 DQ6 (io) "To output data during Read cycles and receive input data during Write cycles. Data is internally latched during a Write cycle. The outputs are in tri-state when OE# or CE# is high.", 21 DQ7 (io) "To output data during Read cycles and receive input data during Write cycles. Data is internally latched during a Write cycle. The outputs are in tri-state when OE# or CE# is high.", 22 CE# (in) "To activate the device when CE# is low.", 23 A10 (in) "To provide memory addresses. During Sector-Erase AMS-A12 address lines will select the sector.", 24 OE# (in) "To gate the data output buffers.", 25 A11 (in) "To provide memory addresses. During Sector-Erase AMS-A12 address lines will select the sector.", 26 A9 (in) "To provide memory addresses. During Sector-Erase AMS-A12 address lines will select the sector.", 27 A8 (in) "To provide memory addresses. During Sector-Erase AMS-A12 address lines will select the sector.", 28 A13 (in) "To provide memory addresses. During Sector-Erase AMS-A12 address lines will select the sector.", 29 A14 (in) "To provide memory addresses. During Sector-Erase AMS-A12 address lines will select the sector.", 30 A17 (in) "To provide memory addresses. During Sector-Erase AMS-A12 address lines will select the sector.", 31 WE# (in) "To control the Write operations.", 32 VDD (power) "To provide 5.0V supply (4.5-5.5V)"

## SST39SF040-70-4C-WHE
designator U?
4 Mbit Multi-Purpose Flash, 4.5 to 5.5 V, 1 kHz, 0 to 70 degC, 32-pin TSOP (WH32), Tray; Manufacturer: Microchip; PartNumber: SST39SF040-70-4C-WHE; DatasheetVersion: Rev. A; PackageVersion: Rev. A; PackageReference: TSOP-WH32; PackageDescription: 32-Lead Thin Small Outline Package, 12.4 x 8 mm Body, 0.5 mm Pitch; Supplier 1: Digi-Key; Supplier Part Number 1: SST39SF040-70-4C-WHE-ND; Supplier 2: Mouser; Supplier Part Number 2: 804-39SF0407CWHE; Mounting Technology: Surface Mount; Code_JEDEC: MO-142; ComponentLink1Description: Manufacturer URL; ComponentLink1URL: http://www.microchip.com; ComponentLink2Description: Datasheet; ComponentLink2URL: http://ww1.microchip.com/downloads/en/DeviceDoc/25022A.pdf; ComponentLink3Description: Package Specification; ComponentLink3URL: http://ww1.microchip.com/downloads/en/DeviceDoc/25022A.pdf; ComponentLink4Description: Product URL; ComponentLink4URL: http://www.microchip.com/SST39SF040
footprint MCHP-TSOP-WH32_N (SOP, 32-Leads, Body 12.4x8mm, Pitch 0.5mm, IPC Medium Density)
footprint MCHP-TSOP-WH32_L (SOP, 32-Leads, Body 12.4x8mm, Pitch 0.5mm, IPC High Density)
footprint MCHP-TSOP-WH32_M (SOP, 32-Leads, Body 12.4x8mm, Pitch 0.5mm, IPC Low Density)
pins: 1 A11 (in) "To provide memory addresses. During Sector-Erase AMS-A12 address lines will select the sector.", 2 A9 (in) "To provide memory addresses. During Sector-Erase AMS-A12 address lines will select the sector.", 3 A8 (in) "To provide memory addresses. During Sector-Erase AMS-A12 address lines will select the sector.", 4 A13 (in) "To provide memory addresses. During Sector-Erase AMS-A12 address lines will select the sector.", 5 A14 (in) "To provide memory addresses. During Sector-Erase AMS-A12 address lines will select the sector.", 6 A17 (in) "To provide memory addresses. During Sector-Erase AMS-A12 address lines will select the sector.", 7 WE# (in) "To control the Write operations.", 8 VDD (power) "To provide positive power supply", 9 A18 (in) "To provide memory addresses. During Sector-Erase AMS-A12 address lines will select the sector.", 10 A16 (in) "To provide memory addresses. During Sector-Erase AMS-A12 address lines will select the sector.", 11 A15 (in) "To provide memory addresses. During Sector-Erase AMS-A12 address lines will select the sector.", 12 A12 (in) "To provide memory addresses. During Sector-Erase AMS-A12 address lines will select the sector.", 13 A7 (in) "To provide memory addresses. During Sector-Erase AMS-A12 address lines will select the sector.", 14 A6 (in) "To provide memory addresses. During Sector-Erase AMS-A12 address lines will select the sector.", 15 A5 (in) "To provide memory addresses. During Sector-Erase AMS-A12 address lines will select the sector.", 16 A4 (in) "To provide memory addresses. During Sector-Erase AMS-A12 address lines will select the sector.", 17 A3 (in) "To provide memory addresses. During Sector-Erase AMS-A12 address lines will select the sector.", 18 A2 (in) "To provide memory addresses. During Sector-Erase AMS-A12 address lines will select the sector.", 19 A1 (in) "To provide memory addresses. During Sector-Erase AMS-A12 address lines will select the sector.", 20 A0 (in) "To provide memory addresses. During Sector-Erase AMS-A12 address lines will select the sector.", 21 DQ0 (io) "To output data during Read cycles and receive input data during Write cycles. Data is internally latched during a Write cycle. The outputs are in tri-state when OE# or CE# is high.", 22 DQ1 (io) "To output data during Read cycles and receive input data during Write cycles. Data is internally latched during a Write cycle. The outputs are in tri-state when OE# or CE# is high.", 23 DQ2 (io) "To output data during Read cycles and receive input data during Write cycles. Data is internally latched during a Write cycle. The outputs are in tri-state when OE# or CE# is high.", 24 VSS (power) "Ground", 25 DQ3 (io) "To output data during Read cycles and receive input data during Write cycles. Data is internally latched during a Write cycle. The outputs are in tri-state when OE# or CE# is high.", 26 DQ4 (io) "To output data during Read cycles and receive input data during Write cycles. Data is internally latched during a Write cycle. The outputs are in tri-state when OE# or CE# is high.", 27 DQ5 (io) "To output data during Read cycles and receive input data during Write cycles. Data is internally latched during a Write cycle. The outputs are in tri-state when OE# or CE# is high.", 28 DQ6 (io) "To output data during Read cycles and receive input data during Write cycles. Data is internally latched during a Write cycle. The outputs are in tri-state when OE# or CE# is high.", 29 DQ7 (io) "To output data during Read cycles and receive input data during Write cycles. Data is internally latched during a Write cycle. The outputs are in tri-state when OE# or CE# is high.", 30 CE# (in) "To activate the device when CE# is low.", 31 A10 (in) "To provide memory addresses. During Sector-Erase AMS-A12 address lines will select the sector.", 32 OE# (in) "To gate the data output buffers."

## SST39SF040-70-4C-WHE-T
designator U?
4 Mbit Multi-Purpose Flash, 4.5 to 5.5 V, 1 kHz, 0 to 70 degC, 32-pin TSOP (WH32), Tape and Reel; Manufacturer: Microchip; PartNumber: SST39SF040-70-4C-WHE-T; DatasheetVersion: Rev. A; PackageVersion: Rev. A; PackageReference: TSOP-WH32; PackageDescription: 32-Lead Thin Small Outline Package, 12.4 x 8 mm Body, 0.5 mm Pitch; Supplier 1: Digi-Key; Supplier Part Number 1: SST39SF040-70-4C-WHE-T-ND; Supplier 2: Mouser; Supplier Part Number 2: 579-39SF0407CWHET; Mounting Technology: Surface Mount; Code_JEDEC: MO-142; ComponentLink1Description: Manufacturer URL; ComponentLink1URL: http://www.microchip.com; ComponentLink2Description: Datasheet; ComponentLink2URL: http://ww1.microchip.com/downloads/en/DeviceDoc/25022A.pdf; ComponentLink3Description: Package Specification; ComponentLink3URL: http://ww1.microchip.com/downloads/en/DeviceDoc/25022A.pdf; ComponentLink4Description: Product URL; ComponentLink4URL: http://www.microchip.com/SST39SF040
footprint MCHP-TSOP-WH32_N (SOP, 32-Leads, Body 12.4x8mm, Pitch 0.5mm, IPC Medium Density)
footprint MCHP-TSOP-WH32_L (SOP, 32-Leads, Body 12.4x8mm, Pitch 0.5mm, IPC High Density)
footprint MCHP-TSOP-WH32_M (SOP, 32-Leads, Body 12.4x8mm, Pitch 0.5mm, IPC Low Density)
pins: 1 A11 (in) "To provide memory addresses. During Sector-Erase AMS-A12 address lines will select the sector.", 2 A9 (in) "To provide memory addresses. During Sector-Erase AMS-A12 address lines will select the sector.", 3 A8 (in) "To provide memory addresses. During Sector-Erase AMS-A12 address lines will select the sector.", 4 A13 (in) "To provide memory addresses. During Sector-Erase AMS-A12 address lines will select the sector.", 5 A14 (in) "To provide memory addresses. During Sector-Erase AMS-A12 address lines will select the sector.", 6 A17 (in) "To provide memory addresses. During Sector-Erase AMS-A12 address lines will select the sector.", 7 WE# (in) "To control the Write operations.", 8 VDD (power) "To provide positive power supply", 9 A18 (in) "To provide memory addresses. During Sector-Erase AMS-A12 address lines will select the sector.", 10 A16 (in) "To provide memory addresses. During Sector-Erase AMS-A12 address lines will select the sector.", 11 A15 (in) "To provide memory addresses. During Sector-Erase AMS-A12 address lines will select the sector.", 12 A12 (in) "To provide memory addresses. During Sector-Erase AMS-A12 address lines will select the sector.", 13 A7 (in) "To provide memory addresses. During Sector-Erase AMS-A12 address lines will select the sector.", 14 A6 (in) "To provide memory addresses. During Sector-Erase AMS-A12 address lines will select the sector.", 15 A5 (in) "To provide memory addresses. During Sector-Erase AMS-A12 address lines will select the sector.", 16 A4 (in) "To provide memory addresses. During Sector-Erase AMS-A12 address lines will select the sector.", 17 A3 (in) "To provide memory addresses. During Sector-Erase AMS-A12 address lines will select the sector.", 18 A2 (in) "To provide memory addresses. During Sector-Erase AMS-A12 address lines will select the sector.", 19 A1 (in) "To provide memory addresses. During Sector-Erase AMS-A12 address lines will select the sector.", 20 A0 (in) "To provide memory addresses. During Sector-Erase AMS-A12 address lines will select the sector.", 21 DQ0 (io) "To output data during Read cycles and receive input data during Write cycles. Data is internally latched during a Write cycle. The outputs are in tri-state when OE# or CE# is high.", 22 DQ1 (io) "To output data during Read cycles and receive input data during Write cycles. Data is internally latched during a Write cycle. The outputs are in tri-state when OE# or CE# is high.", 23 DQ2 (io) "To output data during Read cycles and receive input data during Write cycles. Data is internally latched during a Write cycle. The outputs are in tri-state when OE# or CE# is high.", 24 VSS (power) "Ground", 25 DQ3 (io) "To output data during Read cycles and receive input data during Write cycles. Data is internally latched during a Write cycle. The outputs are in tri-state when OE# or CE# is high.", 26 DQ4 (io) "To output data during Read cycles and receive input data during Write cycles. Data is internally latched during a Write cycle. The outputs are in tri-state when OE# or CE# is high.", 27 DQ5 (io) "To output data during Read cycles and receive input data during Write cycles. Data is internally latched during a Write cycle. The outputs are in tri-state when OE# or CE# is high.", 28 DQ6 (io) "To output data during Read cycles and receive input data during Write cycles. Data is internally latched during a Write cycle. The outputs are in tri-state when OE# or CE# is high.", 29 DQ7 (io) "To output data during Read cycles and receive input data during Write cycles. Data is internally latched during a Write cycle. The outputs are in tri-state when OE# or CE# is high.", 30 CE# (in) "To activate the device when CE# is low.", 31 A10 (in) "To provide memory addresses. During Sector-Erase AMS-A12 address lines will select the sector.", 32 OE# (in) "To gate the data output buffers."